# Altium footprint library PCB1.PcbLib: 13 footprints
Each footprint in its own frame and in the unit in brackets; x right, y up, seen from the top. Pads: shape width x height; smd on the part's side, far side on the other; paste and mask are expansions set on the pad; w line width, h text height; cw(c..) or ccw(c..) is an arc to the next point about the centre after c.
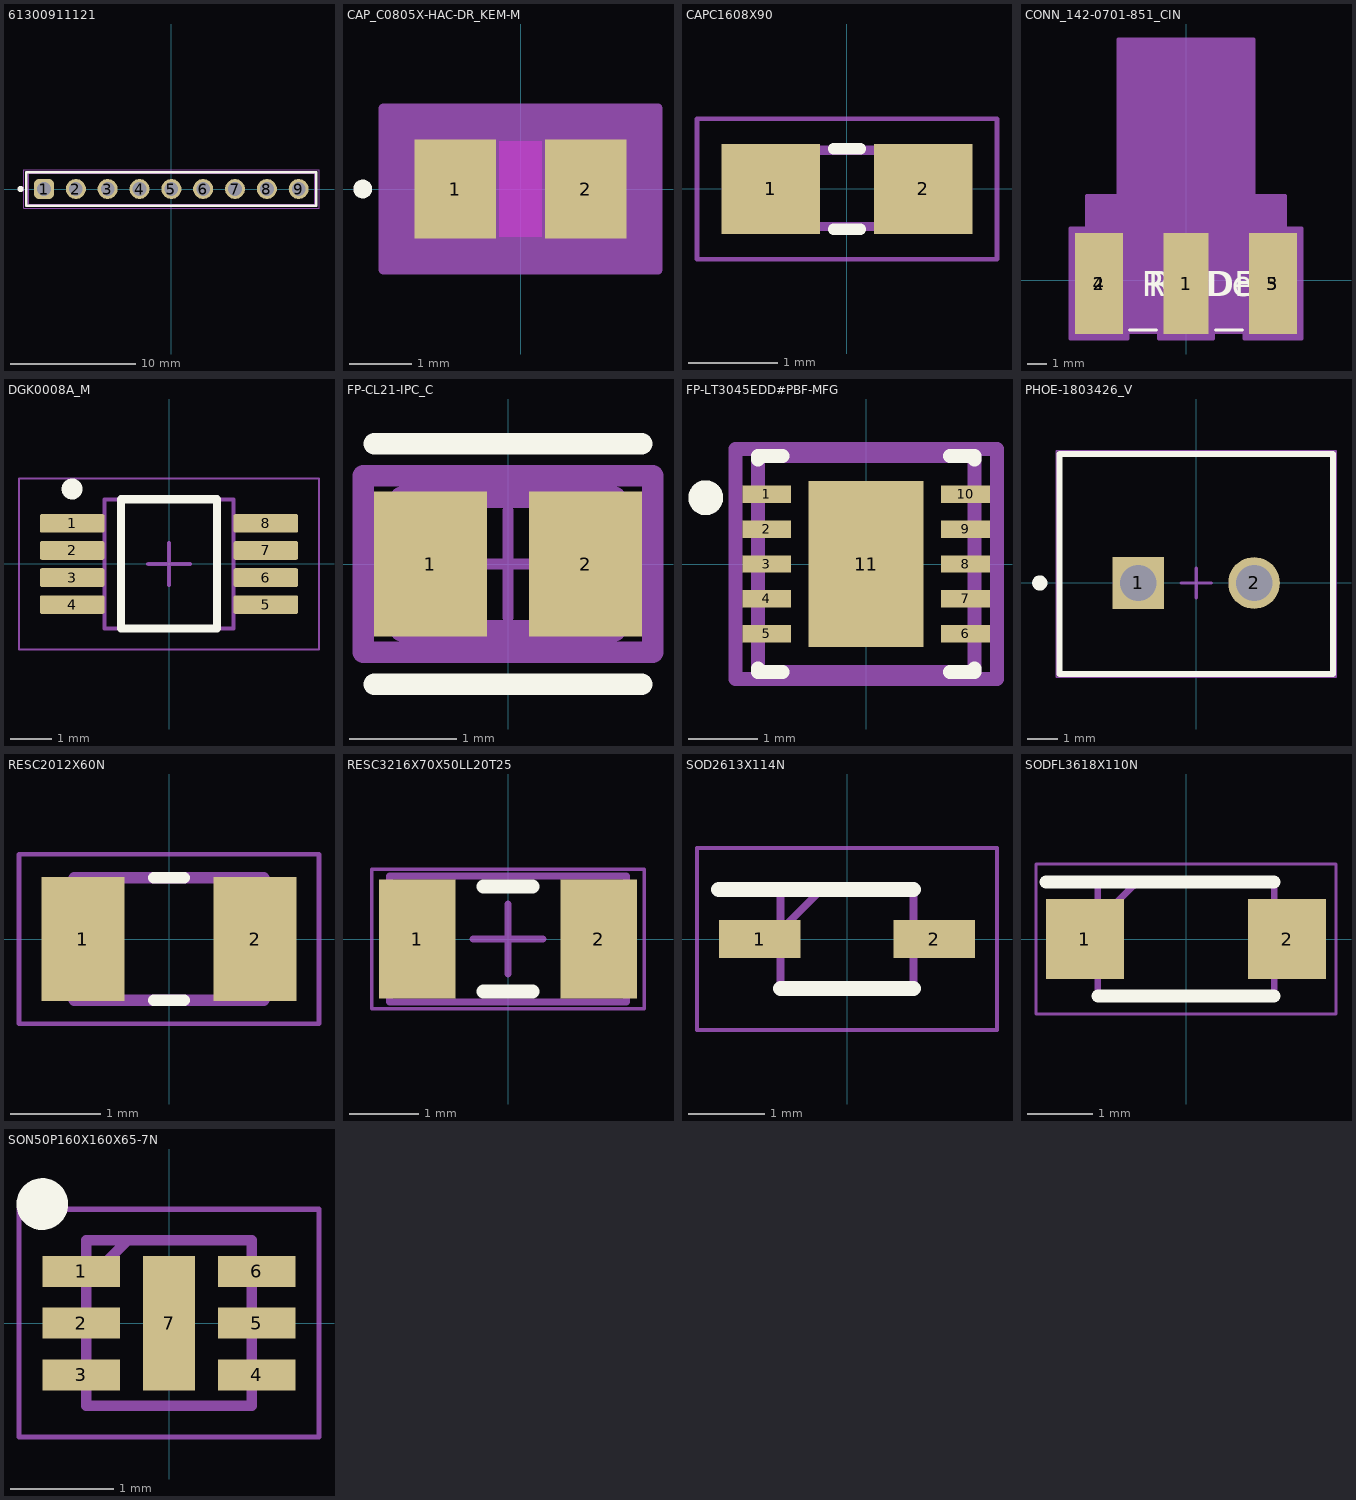
[diagram p0: the footprints below, top view; thin cyan lines are the x and y axes]

## 61300911121 [mm]
pads (9):
  rrect50% 1.6x1.6 hole 1.1: 1(-10.16,0)
  round 1.6 hole 1.1: 2(-7.62,0) 3(-5.08,0) 4(-2.54,0) 5(0,0) 6(2.54,0) 7(5.08,0) 8(7.62,0) 9(10.16,0)
Top Overlay:
  circle w0.25: c-12.03,0 r0.125
  lines w0.2: -11.58,-1.345 11.58,-1.345 11.58,1.345 -11.58,1.345 -11.58,-1.345
Top Courtyard:
  lines w0.05: -11.78,-1.545 -11.78,1.545 11.78,1.545 11.78,-1.545 -11.78,-1.545
Top Designator:
  text ".Designator" at -7.498,-0.5 h1.5
Top Component Outline:
  lines w0.1: -11.43,-1.27 -11.43,1.27 11.43,1.27 11.43,-1.27 -11.43,-1.27
Top Component Center:
  lines w0.05: -0.5,0 0.5,0 ; 0,-0.5 0,0.5
3D body "61300911121.stp": height 8.57, standoff -2.97, extent -11.43,-1.27 11.43,1.27

## CAP_C0805X-HAC-DR_KEM-M [mil]
pads (2):
  rect 52x63 smd paste+0 mask+0: 1(-41.5,0) 2(41.5,0)
Top Layer keep-out:
  region: -13.5,-28.5 -13.5,28.5 13.5,28.5 13.5,-28.5
Top Overlay:
  circle w6: c-100.5,0 r3
  text ".Designator" at -137.5,-25 h50
Keep-Out Layer:
  region: -13.5,-30.5 -13.5,30.5 13.5,30.5 13.5,-30.5
Mechanical 13:
  circle w1: c-36.5,0 r3
  lines w1: -45.5,-30.5 -45.5,30.5 ; -45.5,-30.5 45.5,-30.5 ; -45.5,-30.5 -15.5,-30.5 -15.5,30.5 -45.5,30.5 ; -45.5,-30.5 -45.5,30.5 ; -45.5,30.5 45.5,30.5 ; 45.5,-30.5 45.5,30.5 ; 45.5,-30.5 45.5,30.5 ; 45.5,-30.5 15.5,-30.5 15.5,30.5 45.5,30.5
  text ".Designator" at -137.5,-25 h50
Mechanical 15:
  region: 87.5,-51.5 -87.5,-51.5 -87.5,51.5 87.5,51.5
  lines w6: -87.5,-51.5 87.5,-51.5 87.5,51.5 -87.5,51.5 -87.5,-51.5
3D body "CAP_C0805X-HAC-DR_KEM.step": height 39.02, standoff 0, extent -45.51,-30.51 45.51,30.51

## CAPC1608X90 [mm]
pads (2):
  rect 1.1x1 smd: 1(-0.85,0) 2(0.85,0)
Top Overlay:
  lines w0.127: -0.15,-0.45 0.15,-0.45 ; -0.15,0.45 0.15,0.45
Mechanical 13:
  region: -0.338,-0.47 -0.839,-0.47 -0.839,0.48 -0.338,0.48
  region: 0.83,-0.471 0.331,-0.471 0.331,0.48 0.83,0.48
  lines w0.102: -0.356,-0.419 0.356,-0.419 ; -0.356,0.432 0.356,0.432
Mechanical 15:
  lines w0.051: -1.673,-0.783 1.673,-0.783 1.673,0.783 -1.673,0.783 -1.673,-0.783
3D body "step_temp.STEP": height 0.73, standoff 0, extent -0.8,-0.405 0.8,0.405

## CONN_142-0701-851_CIN [mil]
pads (5):
  rect 90x200 smd paste+0 mask+0: 1(0,-6.5)
  rect 95x200 smd paste-100 mask-100: 2(-172.5,-6.5) 3(172.5,-6.5)
  round 60 smd paste-100 mask-100: 4(-172.5,-6.5) 5(172.5,-6.5)
Top Overlay:
  circle w20: c0,-81.5 r15
  lines w6: -111.9,-98.5 -58.1,-98.5 ; 58.1,-98.5 111.9,-98.5
  text "RefDes" at -75,-31.5 h50
  text "REFDES" at -87.5,-31.5 h50
Mechanical 13:
  circle w20: c0,-81.5 r15
  lines w1: -125,158.5 -125,468.5 125,468.5 125,158.5 ; -187.5,-93.5 -187.5,158.5 187.5,158.5 187.5,-93.5 -187.5,-93.5
  text "RefDes2" at -87.5,-31.5 h50
Mechanical 15:
  region: 197.5,103.5 197.5,168.5 135,168.5 135,478.5 -135,478.5 -135,168.5 -197.5,168.5 -197.5,103.5 -230,103.5 -230,-116.5 -115,-116.5 -115,-103.5 -55,-103.5 -55,-116.5 55,-116.5 55,-103.5 115,-103.5 115,-116.5 230,-116.5 230,103.5
  lines w6: -230,-116.5 -115,-116.5 -115,-103.5 -55,-103.5 -55,-116.5 55,-116.5 55,-103.5 115,-103.5 115,-116.5 230,-116.5 230,103.5 197.5,103.5 197.5,168.5 135,168.5 135,478.5 -135,478.5 -135,168.5 -197.5,168.5 -197.5,103.5 -230,103.5 -230,-116.5
Multi-Layer:
  lines w1: -220,93.5 220,93.5

## DGK0008A_M [mm]
pads (8):
  rrect22% 1.55x0.45 smd: 1(-2.325,0.975) 2(-2.325,0.325) 3(-2.325,-0.325) 4(-2.325,-0.975) 5(2.325,-0.975) 6(2.325,-0.325) 7(2.325,0.325) 8(2.325,0.975)
Top Overlay:
  circle w0.25: c-2.325,1.8 r0.125
  lines w0.2: -1.15,-1.55 1.15,-1.55 1.15,1.55 -1.15,1.55 -1.15,-1.55
Mechanical 1:
  text ".Designator" at -1.397,-0.254 h0.7
Mechanical 13:
  lines w0.1: -1.55,-1.55 1.55,-1.55 1.55,1.55 -1.55,1.55 -1.55,-1.55
Mechanical 15:
  lines w0.05: -3.6,-2.05 3.6,-2.05 3.6,2.05 -3.6,2.05 -3.6,-2.05
  lines w0.1: -0.5,0 0.5,0 ; 0,-0.5 0,0.5
3D body "MUY08A_ASM.stp": height 0.94, standoff -0.02, extent -2.451,-1.499 2.451,1.499

## FP-CL21-IPC_C [mm]
pads (2):
  rect 1.055x1.356 smd paste+0 mask+0: 1(-0.726,0) 2(0.726,0)
Top Overlay:
  lines w0.2: -1.253,-1.125 1.253,-1.125 ; -1.253,1.125 1.253,1.125
Top 3D Body:
  lines w0.2: -1,-0.625 -1,0.625 1,0.625 1,-0.625 -1,-0.625
Top Courtyard:
  lines w0.2: -1.353,-0.825 -1.353,0.825 1.353,0.825 1.353,-0.825 -1.353,-0.825
Top Assembly:
  lines w0.2: -1.353,-0.825 -1.353,0.825 1.353,0.825 1.353,-0.825 -1.353,-0.825
  text ".Designator" at 0,0.188 h1
Top Component Center:
  lines w0.1: -0.5,0 0.5,0 ; 0,-0.5 0,0.5
3D body "Cap_Samsung_CL21B273KBANNNC_eec.STEP": height 0.25, standoff 0, extent -1.353,-0.825 1.353,0.825

## FP-LT3045EDD#PBF-MFG [mm]
pads (11):
  rect 0.7x0.25 smd paste+0 mask+0: 1(-1.425,1) 2(-1.425,0.5) 3(-1.425,0) 4(-1.425,-0.5) 5(-1.425,-1) 6(1.425,-1) 7(1.425,-0.5) 8(1.425,0) 9(1.425,0.5) 10(1.425,1)
  rect 1.65x2.38 smd paste+0 mask+0: 11(0,0)
Top Overlay:
  circle w0.25: c-2.3,0.95 r0.125
  lines w0.2: -1.55,-1.5 -1.55,-1.55 -1.2,-1.55 ; -1.55,1.5 -1.55,1.55 -1.2,1.55 ; 1.2,-1.55 1.55,-1.55 1.55,-1.5 ; 1.2,1.55 1.55,1.55 1.55,1.5
Top 3D Body:
  lines w0.2: -1.55,-1.55 -1.55,1.55 1.55,1.55 1.55,-1.55 -1.55,-1.55
Top Courtyard:
  lines w0.2: -1.875,-1.65 -1.875,1.65 1.875,1.65 1.875,-1.65 -1.875,-1.65
Top Assembly:
  lines w0.2: -1.875,-1.65 -1.875,1.65 1.875,1.65 1.875,-1.65 -1.875,-1.65
  text ".Designator" at 0,0.188 h1
Top Component Center:
  lines w0.1: -0.5,0 0.5,0 ; 0,-0.5 0,0.5
3D body "IC_Analog_Devices_Inc_LT3045EDD#PBF_eec.STEP": height 0.25, standoff 0, extent -1.875,-1.65 1.875,1.65

## PHOE-1803426_V [mm]
pads (2):
  rect 1.7x1.7 hole 1.2: 1(-1.905,0)
  round 1.7 hole 1.2: 2(1.905,0)
Top Overlay:
  circle w0.25: c-5.155,0 r0.125
  lines w0.2: -4.505,-3 4.505,-3 4.505,4.25 -4.505,4.25 -4.505,-3
Mechanical 13:
  lines w0.1: -4.505,-3 -4.505,4.25 4.505,4.25 4.505,-3 -4.505,-3
Mechanical 15:
  lines w0.05: -4.605,-3.1 4.605,-3.1 4.605,4.35 -4.605,4.35 -4.605,-3.1
  lines w0.1: -0.5,0 0.5,0 ; 0,-0.5 0,0.5
3D body "1803426.stp": height 9.2, standoff -3.4, extent -4.505,-3 4.505,4.25

## RESC2012X60N [mm]
pads (2):
  rect 0.92x1.38 smd: 1(-0.955,0) 2(0.955,0)
Top Overlay:
  lines w0.127: -0.17,-0.68 0.17,-0.68 ; -0.17,0.68 0.17,0.68
Mechanical 13:
  lines w0.127: -1.05,-0.68 1.05,-0.68 1.05,0.68 -1.05,0.68 -1.05,-0.68
Mechanical 15:
  lines w0.05: -1.665,-0.94 1.665,-0.94 1.665,0.94 -1.665,0.94 -1.665,-0.94

## RESC3216X70X50LL20T25 [mm]
pads (2):
  rect 1.1x1.7 smd: 1(-1.3,0) 2(1.3,0)
Top Overlay:
  lines w0.2: -0.35,-0.75 0.35,-0.75 ; -0.35,0.75 0.35,0.75
Mechanical 13:
  lines w0.1: -1.7,-0.9 -1.7,0.9 1.7,0.9 1.7,-0.9 -1.7,-0.9
Mechanical 15:
  lines w0.05: -1.95,-1 -1.95,1 1.95,1 1.95,-1 -1.95,-1
  lines w0.1: -0.5,0 0.5,0 ; 0,-0.5 0,0.5
3D body: height 0.7, standoff 0, extent -1.2,-0.9 1.2,0.9
3D body: height 0.7, standoff 0, extent -1.7,-0.9 -1.2,0.9
3D body: height 0.7, standoff 0, extent 1.2,-0.9 1.7,0.9

## SOD2613X114N [mm]
pads (2):
  rect 1.075x0.5 smd: 1(-1.15,0) 2(1.15,0)
Top Overlay:
  lines w0.2: -1.688,0.65 0.875,0.65 ; -0.875,-0.65 0.875,-0.65
Mechanical 13:
  lines w0.1: -0.875,0.112 -0.338,0.65 ; -0.875,-0.65 -0.875,0.65 0.875,0.65 0.875,-0.65 -0.875,-0.65
Mechanical 15:
  lines w0.05: -1.975,-1.2 -1.975,1.2 1.975,1.2 1.975,-1.2 -1.975,-1.2
3D body "AQ4020-01FTG.stp": height 1.14, standoff 0, extent -1.298,-0.65 1.298,0.65

## SODFL3618X110N [mm]
pads (2):
  rect 1.2x1.22 smd: 1(-1.55,0) 2(1.55,0)
Top Overlay:
  lines w0.2: -2.15,0.875 1.35,0.875 ; -1.35,-0.875 1.35,-0.875
Mechanical 13:
  lines w0.1: -1.35,0.275 -0.75,0.875 ; -1.35,-0.875 1.35,-0.875 1.35,0.875 -1.35,0.875 -1.35,-0.875
Mechanical 15:
  lines w0.05: -2.3,-1.15 2.3,-1.15 2.3,1.15 -2.3,1.15 -2.3,-1.15
3D body "SMF5.0A-T13.stp": height 1.1, standoff 0, extent -1.825,-0.875 1.825,0.875

## SON50P160X160X65-7N [mm]
pads (7):
  rect 0.75x0.3 smd: 1(-0.85,0.5) 2(-0.85,0) 3(-0.85,-0.5) 4(0.85,-0.5) 5(0.85,0) 6(0.85,0.5)
  rect 0.5x1.3 smd: 7(0,0)
Top Overlay:
  circle w0.25: c-1.225,1.15 r0.125
Mechanical 13:
  lines w0.1: -0.8,0.4 -0.4,0.8 ; -0.8,-0.8 0.8,-0.8 0.8,0.8 -0.8,0.8 -0.8,-0.8
Mechanical 15:
  lines w0.05: -1.45,-1.1 1.45,-1.1 1.45,1.1 -1.45,1.1 -1.45,-1.1
3D body "UCLAMP3306P.TCT.stp": height 0.65, standoff 0, extent -0.85,-0.8 0.85,0.8